# Altium footprint library Libreria_Borxo_Pcb.PcbLib: 38 footprints (part 3 of 3)
Each footprint in its own frame and in the unit in brackets; x right, y up, seen from the top. Pads: shape width x height; smd on the part's side, far side on the other; paste and mask are expansions set on the pad; w line width, h text height; cw(c..) or ccw(c..) is an arc to the next point about the centre after c.
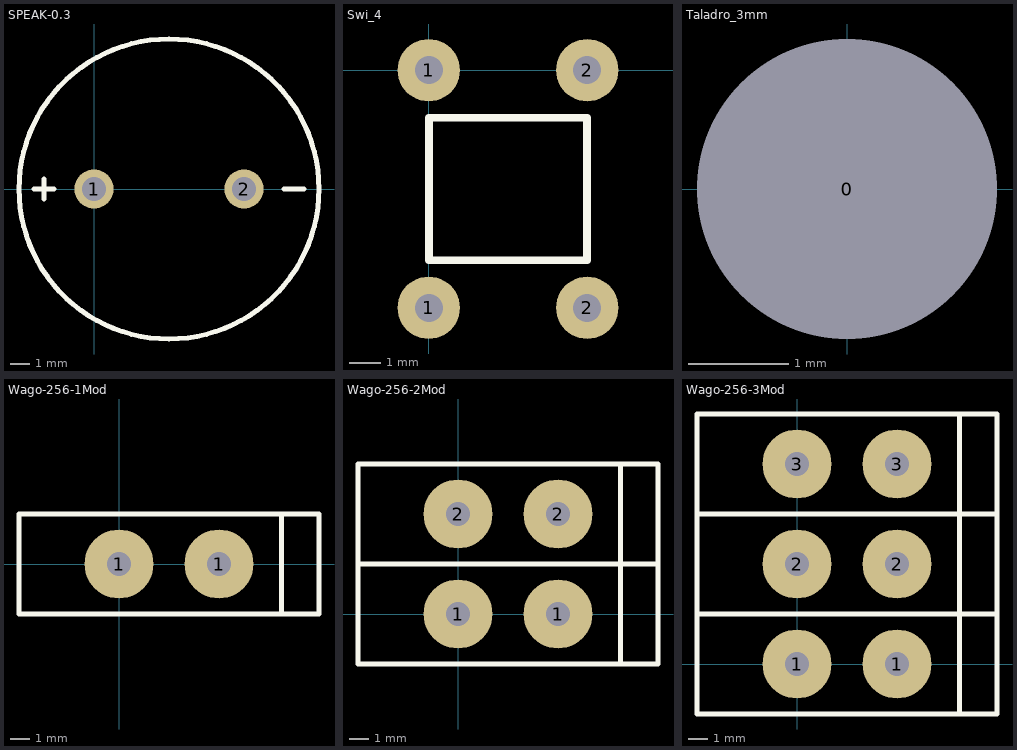
[diagram p2: the footprints below, top view; thin cyan lines are the x and y axes]

## SPEAK-0.3 [mm] "Photosensitive Diode; 0.3 in Pin Spacing"
pads (2):
  round 2 hole 1.2 mask+0.2: 1(0,0) 2(7.62,0)
Top Overlay:
  circle w0.254: c3.81,0 r7.62
  lines w0.254: -3.048,0 -2.032,0 ; -2.54,-0.508 -2.54,0.508 ; 9.652,0 10.668,0
3D body "BUZZER_15.STEP": height 9.65, standoff -4.5, extent -4.318,-7.9 14.536,7.9

## Swi_4 [mm] "Switch_4Pin"
pads (4):
  round 2 hole 0.9 mask+0.2: 1(0,-7.62) 1(0,0) 2(5.08,-7.62) 2(5.08,0)
Top Overlay:
  lines w0.254: 0,-6.096 5.08,-6.096 5.08,-1.524 0,-1.524 0,-6.096
3D body "PULmin-l.STEP": height 11, standoff -2, extent -0.46,-7.916 5.54,0.296

## Taladro_3mm [mm]
pads (1):
  round 2.5 hole 3: 0(0,0)

## Wago-256-1Mod [mm] "Clema-Modelo 256-401- 1 Modulo"
pads (2):
  round 3.5 hole 1.2 mask+0.2: 1(0,0) 1(5.08,0)
Top Overlay:
  lines w0.254: 8.255,-2.54 8.255,2.54 ; -5.08,-2.54 10.16,-2.54 10.16,2.54 -5.08,2.54 -5.08,-2.54
3D body "User Library-WAGO256-401.step": height 18.81, standoff -4, extent -4.822,-4.085 10.207,3.815

## Wago-256-2Mod [mm] "Clema-Modelo 256-401- 2 Modulo"
pads (4):
  round 3.5 hole 1.2 mask+0.2: 1(0,0) 1(5.08,0) 2(0,5.08) 2(5.08,5.08)
Top Overlay:
  lines w0.254: 8.255,-2.54 8.255,7.62 ; -5.08,2.54 -5.08,7.62 10.16,7.62 10.16,2.54 ; -5.08,2.54 10.16,2.54 ; -5.08,2.54 -5.08,-2.54 10.16,-2.54 10.16,2.54
3D body "User Library-Wagoo 256-402.STEP": height 19.12, standoff -3.69, extent -4.844,-3.281 10.185,8.819

## Wago-256-3Mod [mm] "Clema-Modelo 256-401- 3 Modulo"
pads (6):
  round 3.5 hole 1.2 mask+0.2: 1(0,0) 1(5.08,0) 2(0,5.08) 2(5.08,5.08) 3(0,10.16) 3(5.08,10.16)
Top Overlay:
  lines w0.254: 8.255,-2.54 8.255,12.7 ; -5.08,2.54 -5.08,7.62 ; -5.08,2.54 10.16,2.54 ; -5.08,2.54 -5.08,-2.54 10.16,-2.54 10.16,2.54 ; -5.08,7.62 10.16,7.62 ; -5.08,7.62 -5.08,12.7 10.16,12.7 10.16,7.62 ; 10.16,2.54 10.16,7.62
3D body "User Library-Wago 256-403.step": height 18.81, standoff -4, extent -5.08,-3.362 9.945,14.538